# Altium schematic symbol library CAS-D20TB.Schlib: 1 symbol
Pins are listed as number, name and electrical type; pins without a type are passive.

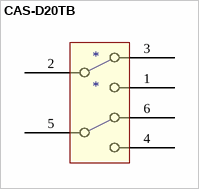
[diagram p0: symbol CAS-D20TB]

## CAS-D20TB
designator *
pins: 1, 2, 3, 4, 5, 6